# Altium integrated library Vishay Roederstein Electrolytic Axial-Lead Capacitor.IntLib: 155 symbols (part 2 of 3)
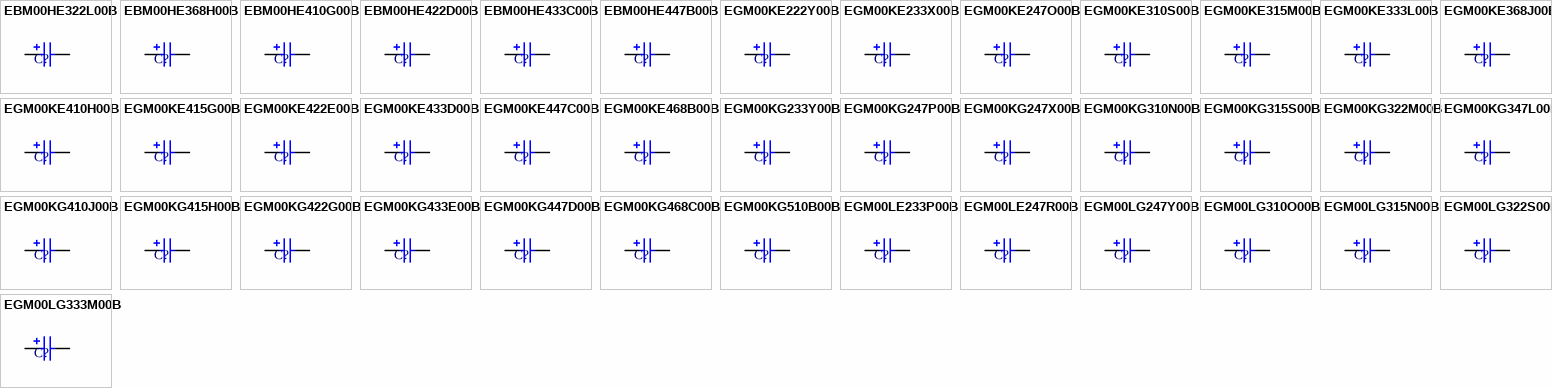
[diagram p4: symbols EBM00HE322L00B to EGM00LG333M00B]

## EGM00KG233Y00B
designator C?
Aluminum Electrolytic Capacitor, Axial Miniature: 33uF, 500V; Note: Bulk Pack Part No. shown, refer to Manufacturer's Data Sheets for other package types; PCB_Layout: Complies with IPC-2221.; DrillSize: Nominal, Rounded To The Nearest 0.1mm; Published: 19-Mar-2004; DatasheetDocument: 8-Apr-2002; PackageReference: CAPPA46.1-41x16.5; Publisher: Altium Limited; ComponentLink1Description: Manufacturer Link; ComponentLink1URL: http://www.vishay.com/; ComponentLink2Description: Datasheet; ComponentLink2URL: http://www.vishay.com/docs/25140/elebegm.pdf; Value: 33uF
footprint CAPPA46.1-41x16.5 (Capacitor, Electrolytic, Axial; Body 41 x 16.5 mm (LxDia. max), Lead Dia. 0.8 mm (typ))
simulation model CAP (Capacitor)
signal-integrity model EGM00KG233Y00B
pins: 1, 2
1 alternate drawing of the same symbol

## EGM00KG247P00B
designator C?
Aluminum Electrolytic Capacitor, Axial Miniature: 47uF, 450V; Note: Bulk Pack Part No. shown, refer to Manufacturer's Data Sheets for other package types; PCB_Layout: Complies with IPC-2221.; DrillSize: Nominal, Rounded To The Nearest 0.1mm; Published: 19-Mar-2004; DatasheetDocument: 8-Apr-2002; PackageReference: CAPPA46.1-41x16.5; Publisher: Altium Limited; ComponentLink1Description: Manufacturer Link; ComponentLink1URL: http://www.vishay.com/; ComponentLink2Description: Datasheet; ComponentLink2URL: http://www.vishay.com/docs/25140/elebegm.pdf; Value: 47uF
footprint CAPPA46.1-41x16.5 (Capacitor, Electrolytic, Axial; Body 41 x 16.5 mm (LxDia. max), Lead Dia. 0.8 mm (typ))
simulation model CAP (Capacitor)
signal-integrity model EGM00KG247P00B
pins: 1, 2
1 alternate drawing of the same symbol

## EGM00KG247X00B
designator C?
Aluminum Electrolytic Capacitor, Axial Miniature: 47uF, 400V; Note: Bulk Pack Part No. shown, refer to Manufacturer's Data Sheets for other package types; PCB_Layout: Complies with IPC-2221.; DrillSize: Nominal, Rounded To The Nearest 0.1mm; Published: 19-Mar-2004; DatasheetDocument: 8-Apr-2002; PackageReference: CAPPA46.1-41x16.5; Publisher: Altium Limited; ComponentLink1Description: Manufacturer Link; ComponentLink1URL: http://www.vishay.com/; ComponentLink2Description: Datasheet; ComponentLink2URL: http://www.vishay.com/docs/25140/elebegm.pdf; Value: 47uF
footprint CAPPA46.1-41x16.5 (Capacitor, Electrolytic, Axial; Body 41 x 16.5 mm (LxDia. max), Lead Dia. 0.8 mm (typ))
simulation model CAP (Capacitor)
signal-integrity model EGM00KG247X00B
pins: 1, 2
1 alternate drawing of the same symbol

## EGM00KG310N00B
designator C?
Aluminum Electrolytic Capacitor, Axial Miniature: 100uF, 250V; Note: Bulk Pack Part No. shown, refer to Manufacturer's Data Sheets for other package types; PCB_Layout: Complies with IPC-2221.; DrillSize: Nominal, Rounded To The Nearest 0.1mm; Published: 19-Mar-2004; DatasheetDocument: 8-Apr-2002; PackageReference: CAPPA46.1-41x16.5; Publisher: Altium Limited; ComponentLink1Description: Manufacturer Link; ComponentLink1URL: http://www.vishay.com/; ComponentLink2Description: Datasheet; ComponentLink2URL: http://www.vishay.com/docs/25140/elebegm.pdf; Value: 100uF
footprint CAPPA46.1-41x16.5 (Capacitor, Electrolytic, Axial; Body 41 x 16.5 mm (LxDia. max), Lead Dia. 0.8 mm (typ))
simulation model CAP (Capacitor)
signal-integrity model EGM00KG310N00B
pins: 1, 2
1 alternate drawing of the same symbol

## EGM00KG315S00B
designator C?
Aluminum Electrolytic Capacitor, Axial Miniature: 150uF, 200V; Note: Bulk Pack Part No. shown, refer to Manufacturer's Data Sheets for other package types; PCB_Layout: Complies with IPC-2221.; DrillSize: Nominal, Rounded To The Nearest 0.1mm; Published: 19-Mar-2004; DatasheetDocument: 8-Apr-2002; PackageReference: CAPPA46.1-41x16.5; Publisher: Altium Limited; ComponentLink1Description: Manufacturer Link; ComponentLink1URL: http://www.vishay.com/; ComponentLink2Description: Datasheet; ComponentLink2URL: http://www.vishay.com/docs/25140/elebegm.pdf; Value: 150uF
footprint CAPPA46.1-41x16.5 (Capacitor, Electrolytic, Axial; Body 41 x 16.5 mm (LxDia. max), Lead Dia. 0.8 mm (typ))
simulation model CAP (Capacitor)
signal-integrity model EGM00KG315S00B
pins: 1, 2
1 alternate drawing of the same symbol

## EGM00KG322M00B
designator C?
Aluminum Electrolytic Capacitor, Axial Miniature: 220uF, 160V; Note: Bulk Pack Part No. shown, refer to Manufacturer's Data Sheets for other package types; PCB_Layout: Complies with IPC-2221.; DrillSize: Nominal, Rounded To The Nearest 0.1mm; Published: 19-Mar-2004; DatasheetDocument: 8-Apr-2002; PackageReference: CAPPA46.1-41x16.5; Publisher: Altium Limited; ComponentLink1Description: Manufacturer Link; ComponentLink1URL: http://www.vishay.com/; ComponentLink2Description: Datasheet; ComponentLink2URL: http://www.vishay.com/docs/25140/elebegm.pdf; Value: 220uF
footprint CAPPA46.1-41x16.5 (Capacitor, Electrolytic, Axial; Body 41 x 16.5 mm (LxDia. max), Lead Dia. 0.8 mm (typ))
simulation model CAP (Capacitor)
signal-integrity model EGM00KG322M00B
pins: 1, 2
1 alternate drawing of the same symbol

## EGM00KG347L00B
designator C?
Aluminum Electrolytic Capacitor, Axial Miniature: 470uF, 100V; Note: Bulk Pack Part No. shown, refer to Manufacturer's Data Sheets for other package types; PCB_Layout: Complies with IPC-2221.; DrillSize: Nominal, Rounded To The Nearest 0.1mm; Published: 19-Mar-2004; DatasheetDocument: 8-Apr-2002; PackageReference: CAPPA46.1-41x16.5; Publisher: Altium Limited; ComponentLink1Description: Manufacturer Link; ComponentLink1URL: http://www.vishay.com/; ComponentLink2Description: Datasheet; ComponentLink2URL: http://www.vishay.com/docs/25140/elebegm.pdf; Value: 470uF
footprint CAPPA46.1-41x16.5 (Capacitor, Electrolytic, Axial; Body 41 x 16.5 mm (LxDia. max), Lead Dia. 0.8 mm (typ))
simulation model CAP (Capacitor)
signal-integrity model EGM00KG347L00B
pins: 1, 2
1 alternate drawing of the same symbol

## EGM00KG410J00B
designator C?
Aluminum Electrolytic Capacitor, Axial Miniature: 1000uF, 63V; Note: Bulk Pack Part No. shown, refer to Manufacturer's Data Sheets for other package types; PCB_Layout: Complies with IPC-2221.; DrillSize: Nominal, Rounded To The Nearest 0.1mm; Published: 19-Mar-2004; DatasheetDocument: 8-Apr-2002; PackageReference: CAPPA46.1-41x16.5; Publisher: Altium Limited; ComponentLink1Description: Manufacturer Link; ComponentLink1URL: http://www.vishay.com/; ComponentLink2Description: Datasheet; ComponentLink2URL: http://www.vishay.com/docs/25140/elebegm.pdf; Value: 1000uF
footprint CAPPA46.1-41x16.5 (Capacitor, Electrolytic, Axial; Body 41 x 16.5 mm (LxDia. max), Lead Dia. 0.8 mm (typ))
simulation model CAP (Capacitor)
signal-integrity model EGM00KG410J00B
pins: 1, 2
1 alternate drawing of the same symbol

## EGM00KG415H00B
designator C?
Aluminum Electrolytic Capacitor, Axial Miniature: 1500uF, 50V; Note: Bulk Pack Part No. shown, refer to Manufacturer's Data Sheets for other package types; PCB_Layout: Complies with IPC-2221.; DrillSize: Nominal, Rounded To The Nearest 0.1mm; Published: 19-Mar-2004; DatasheetDocument: 8-Apr-2002; PackageReference: CAPPA46.1-41x16.5; Publisher: Altium Limited; ComponentLink1Description: Manufacturer Link; ComponentLink1URL: http://www.vishay.com/; ComponentLink2Description: Datasheet; ComponentLink2URL: http://www.vishay.com/docs/25140/elebegm.pdf; Value: 1500uF
footprint CAPPA46.1-41x16.5 (Capacitor, Electrolytic, Axial; Body 41 x 16.5 mm (LxDia. max), Lead Dia. 0.8 mm (typ))
simulation model CAP (Capacitor)
signal-integrity model EGM00KG415H00B
pins: 1, 2
1 alternate drawing of the same symbol

## EGM00KG422G00B
designator C?
Aluminum Electrolytic Capacitor, Axial Miniature: 2200uF, 40V; Note: Bulk Pack Part No. shown, refer to Manufacturer's Data Sheets for other package types; PCB_Layout: Complies with IPC-2221.; DrillSize: Nominal, Rounded To The Nearest 0.1mm; Published: 19-Mar-2004; DatasheetDocument: 8-Apr-2002; PackageReference: CAPPA46.1-41x16.5; Publisher: Altium Limited; ComponentLink1Description: Manufacturer Link; ComponentLink1URL: http://www.vishay.com/; ComponentLink2Description: Datasheet; ComponentLink2URL: http://www.vishay.com/docs/25140/elebegm.pdf; Value: 2200uF
footprint CAPPA46.1-41x16.5 (Capacitor, Electrolytic, Axial; Body 41 x 16.5 mm (LxDia. max), Lead Dia. 0.8 mm (typ))
simulation model CAP (Capacitor)
signal-integrity model EGM00KG422G00B
pins: 1, 2
1 alternate drawing of the same symbol

## EGM00KG433E00B
designator C?
Aluminum Electrolytic Capacitor, Axial Miniature: 3300uF, 25V; Note: Bulk Pack Part No. shown, refer to Manufacturer's Data Sheets for other package types; PCB_Layout: Complies with IPC-2221.; DrillSize: Nominal, Rounded To The Nearest 0.1mm; Published: 19-Mar-2004; DatasheetDocument: 8-Apr-2002; PackageReference: CAPPA46.1-41x16.5; Publisher: Altium Limited; ComponentLink1Description: Manufacturer Link; ComponentLink1URL: http://www.vishay.com/; ComponentLink2Description: Datasheet; ComponentLink2URL: http://www.vishay.com/docs/25140/elebegm.pdf; Value: 3300uF
footprint CAPPA46.1-41x16.5 (Capacitor, Electrolytic, Axial; Body 41 x 16.5 mm (LxDia. max), Lead Dia. 0.8 mm (typ))
simulation model CAP (Capacitor)
signal-integrity model EGM00KG433E00B
pins: 1, 2
1 alternate drawing of the same symbol

## EGM00KG447D00B
designator C?
Aluminum Electrolytic Capacitor, Axial Miniature: 4700uF, 16V; Note: Bulk Pack Part No. shown, refer to Manufacturer's Data Sheets for other package types; PCB_Layout: Complies with IPC-2221.; DrillSize: Nominal, Rounded To The Nearest 0.1mm; Published: 19-Mar-2004; DatasheetDocument: 8-Apr-2002; PackageReference: CAPPA46.1-41x16.5; Publisher: Altium Limited; ComponentLink1Description: Manufacturer Link; ComponentLink1URL: http://www.vishay.com/; ComponentLink2Description: Datasheet; ComponentLink2URL: http://www.vishay.com/docs/25140/elebegm.pdf; Value: 4700uF
footprint CAPPA46.1-41x16.5 (Capacitor, Electrolytic, Axial; Body 41 x 16.5 mm (LxDia. max), Lead Dia. 0.8 mm (typ))
simulation model CAP (Capacitor)
signal-integrity model EGM00KG447D00B
pins: 1, 2
1 alternate drawing of the same symbol

## EGM00KG468C00B
designator C?
Aluminum Electrolytic Capacitor, Axial Miniature: 6800uF, 10V; Note: Bulk Pack Part No. shown, refer to Manufacturer's Data Sheets for other package types; PCB_Layout: Complies with IPC-2221.; DrillSize: Nominal, Rounded To The Nearest 0.1mm; Published: 19-Mar-2004; DatasheetDocument: 8-Apr-2002; PackageReference: CAPPA46.1-41x16.5; Publisher: Altium Limited; ComponentLink1Description: Manufacturer Link; ComponentLink1URL: http://www.vishay.com/; ComponentLink2Description: Datasheet; ComponentLink2URL: http://www.vishay.com/docs/25140/elebegm.pdf; Value: 6800uF
footprint CAPPA46.1-41x16.5 (Capacitor, Electrolytic, Axial; Body 41 x 16.5 mm (LxDia. max), Lead Dia. 0.8 mm (typ))
simulation model CAP (Capacitor)
signal-integrity model EGM00KG468C00B
pins: 1, 2
1 alternate drawing of the same symbol

## EGM00KG510B00B
designator C?
Aluminum Electrolytic Capacitor, Axial Miniature: 10000uF, 6.3V; Note: Bulk Pack Part No. shown, refer to Manufacturer's Data Sheets for other package types; PCB_Layout: Complies with IPC-2221.; DrillSize: Nominal, Rounded To The Nearest 0.1mm; Published: 19-Mar-2004; DatasheetDocument: 8-Apr-2002; PackageReference: CAPPA46.1-41x16.5; Publisher: Altium Limited; ComponentLink1Description: Manufacturer Link; ComponentLink1URL: http://www.vishay.com/; ComponentLink2Description: Datasheet; ComponentLink2URL: http://www.vishay.com/docs/25140/elebegm.pdf; Value: 10000uF
footprint CAPPA46.1-41x16.5 (Capacitor, Electrolytic, Axial; Body 41 x 16.5 mm (LxDia. max), Lead Dia. 0.8 mm (typ))
simulation model CAP (Capacitor)
signal-integrity model EGM00KG510B00B
pins: 1, 2
1 alternate drawing of the same symbol

## EGM00LE233P00B
designator C?
Aluminum Electrolytic Capacitor, Axial Miniature: 33uF, 450V; Note: Bulk Pack Part No. shown, refer to Manufacturer's Data Sheets for other package types; PCB_Layout: Complies with IPC-2221.; DrillSize: Nominal, Rounded To The Nearest 0.1mm; Published: 19-Mar-2004; DatasheetDocument: 8-Apr-2002; PackageReference: CAPPA35.6-30.5x18.5; Publisher: Altium Limited; ComponentLink1Description: Manufacturer Link; ComponentLink1URL: http://www.vishay.com/; ComponentLink2Description: Datasheet; ComponentLink2URL: http://www.vishay.com/docs/25140/elebegm.pdf; Value: 33uF
footprint CAPPA35.6-30.5x18.5 (Capacitor, Electrolytic, Axial; Body 30.5 x 18.5 mm (LxDia. max), Lead Dia. 0.8 mm (typ))
simulation model CAP (Capacitor)
signal-integrity model EGM00LE233P00B
pins: 1, 2
1 alternate drawing of the same symbol

## EGM00LE247R00B
designator C?
Aluminum Electrolytic Capacitor, Axial Miniature: 47uF, 385V; Note: Bulk Pack Part No. shown, refer to Manufacturer's Data Sheets for other package types; PCB_Layout: Complies with IPC-2221.; DrillSize: Nominal, Rounded To The Nearest 0.1mm; Published: 19-Mar-2004; DatasheetDocument: 8-Apr-2002; PackageReference: CAPPA35.6-30.5x18.5; Publisher: Altium Limited; ComponentLink1Description: Manufacturer Link; ComponentLink1URL: http://www.vishay.com/; ComponentLink2Description: Datasheet; ComponentLink2URL: http://www.vishay.com/docs/25140/elebegm.pdf; Value: 47uF
footprint CAPPA35.6-30.5x18.5 (Capacitor, Electrolytic, Axial; Body 30.5 x 18.5 mm (LxDia. max), Lead Dia. 0.8 mm (typ))
simulation model CAP (Capacitor)
signal-integrity model EGM00LE247R00B
pins: 1, 2
1 alternate drawing of the same symbol

## EGM00LG247Y00B
designator C?
Aluminum Electrolytic Capacitor, Axial Miniature: 47uF, 500V; Note: Bulk Pack Part No. shown, refer to Manufacturer's Data Sheets for other package types; PCB_Layout: Complies with IPC-2221.; DrillSize: Nominal, Rounded To The Nearest 0.1mm; Published: 19-Mar-2004; DatasheetDocument: 8-Apr-2002; PackageReference: CAPPA45.6-40.5x18.5; Publisher: Altium Limited; ComponentLink1Description: Manufacturer Link; ComponentLink1URL: http://www.vishay.com/; ComponentLink2Description: Datasheet; ComponentLink2URL: http://www.vishay.com/docs/25140/elebegm.pdf; Value: 47uF
footprint CAPPA45.6-40.5x18.5 (Capacitor, Electrolytic, Axial; Body 40.5 x 18.5 mm (LxDia. max), Lead Dia. 0.8 mm (typ))
simulation model CAP (Capacitor)
signal-integrity model EGM00LG247Y00B
pins: 1, 2
1 alternate drawing of the same symbol

## EGM00LG310O00B
designator C?
Aluminum Electrolytic Capacitor, Axial Miniature: 100uF, 350V; Note: Bulk Pack Part No. shown, refer to Manufacturer's Data Sheets for other package types; PCB_Layout: Complies with IPC-2221.; DrillSize: Nominal, Rounded To The Nearest 0.1mm; Published: 19-Mar-2004; DatasheetDocument: 8-Apr-2002; PackageReference: CAPPA45.6-40.5x18.5; Publisher: Altium Limited; ComponentLink1Description: Manufacturer Link; ComponentLink1URL: http://www.vishay.com/; ComponentLink2Description: Datasheet; ComponentLink2URL: http://www.vishay.com/docs/25140/elebegm.pdf; Value: 100uF
footprint CAPPA45.6-40.5x18.5 (Capacitor, Electrolytic, Axial; Body 40.5 x 18.5 mm (LxDia. max), Lead Dia. 0.8 mm (typ))
simulation model CAP (Capacitor)
signal-integrity model EGM00LG310O00B
pins: 1, 2
1 alternate drawing of the same symbol

## EGM00LG315N00B
designator C?
Aluminum Electrolytic Capacitor, Axial Miniature: 150uF, 250V; Note: Bulk Pack Part No. shown, refer to Manufacturer's Data Sheets for other package types; PCB_Layout: Complies with IPC-2221.; DrillSize: Nominal, Rounded To The Nearest 0.1mm; Published: 19-Mar-2004; DatasheetDocument: 8-Apr-2002; PackageReference: CAPPA45.6-40.5x18.5; Publisher: Altium Limited; ComponentLink1Description: Manufacturer Link; ComponentLink1URL: http://www.vishay.com/; ComponentLink2Description: Datasheet; ComponentLink2URL: http://www.vishay.com/docs/25140/elebegm.pdf; Value: 150uF
footprint CAPPA45.6-40.5x18.5 (Capacitor, Electrolytic, Axial; Body 40.5 x 18.5 mm (LxDia. max), Lead Dia. 0.8 mm (typ))
simulation model CAP (Capacitor)
signal-integrity model EGM00LG315N00B
pins: 1, 2
1 alternate drawing of the same symbol

## EGM00LG322S00B
designator C?
Aluminum Electrolytic Capacitor, Axial Miniature: 220uF, 200V; Note: Bulk Pack Part No. shown, refer to Manufacturer's Data Sheets for other package types; PCB_Layout: Complies with IPC-2221.; DrillSize: Nominal, Rounded To The Nearest 0.1mm; Published: 19-Mar-2004; DatasheetDocument: 8-Apr-2002; PackageReference: CAPPA45.6-40.5x18.5; Publisher: Altium Limited; ComponentLink1Description: Manufacturer Link; ComponentLink1URL: http://www.vishay.com/; ComponentLink2Description: Datasheet; ComponentLink2URL: http://www.vishay.com/docs/25140/elebegm.pdf; Value: 220uF
footprint CAPPA45.6-40.5x18.5 (Capacitor, Electrolytic, Axial; Body 40.5 x 18.5 mm (LxDia. max), Lead Dia. 0.8 mm (typ))
simulation model CAP (Capacitor)
signal-integrity model EGM00LG322S00B
pins: 1, 2
1 alternate drawing of the same symbol

## EGM00LG333M00B
designator C?
Aluminum Electrolytic Capacitor, Axial Miniature: 330uF, 160V; Note: Bulk Pack Part No. shown, refer to Manufacturer's Data Sheets for other package types; PCB_Layout: Complies with IPC-2221.; DrillSize: Nominal, Rounded To The Nearest 0.1mm; Published: 19-Mar-2004; DatasheetDocument: 8-Apr-2002; PackageReference: CAPPA45.6-40.5x18.5; Publisher: Altium Limited; ComponentLink1Description: Manufacturer Link; ComponentLink1URL: http://www.vishay.com/; ComponentLink2Description: Datasheet; ComponentLink2URL: http://www.vishay.com/docs/25140/elebegm.pdf; Value: 330uF
footprint CAPPA45.6-40.5x18.5 (Capacitor, Electrolytic, Axial; Body 40.5 x 18.5 mm (LxDia. max), Lead Dia. 0.8 mm (typ))
simulation model CAP (Capacitor)
signal-integrity model EGM00LG333M00B
pins: 1, 2
1 alternate drawing of the same symbol

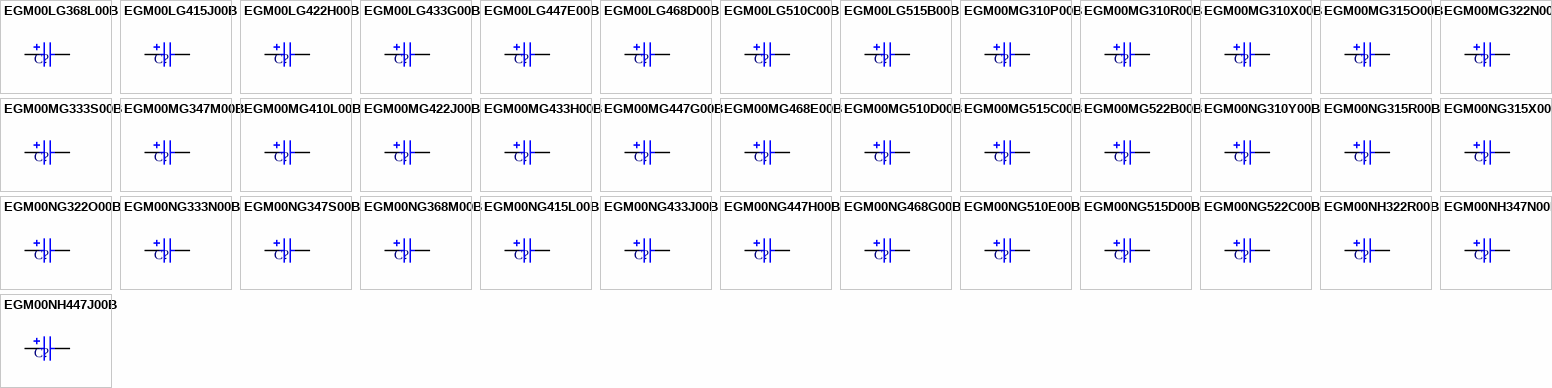
[diagram p2: symbols EGM00LG368L00B to EGM00NH447J00B]

## EGM00LG368L00B
designator C?
Aluminum Electrolytic Capacitor, Axial Miniature: 680uF, 100V; Note: Bulk Pack Part No. shown, refer to Manufacturer's Data Sheets for other package types; PCB_Layout: Complies with IPC-2221.; DrillSize: Nominal, Rounded To The Nearest 0.1mm; Published: 19-Mar-2004; DatasheetDocument: 8-Apr-2002; PackageReference: CAPPA45.6-40.5x18.5; Publisher: Altium Limited; ComponentLink1Description: Manufacturer Link; ComponentLink1URL: http://www.vishay.com/; ComponentLink2Description: Datasheet; ComponentLink2URL: http://www.vishay.com/docs/25140/elebegm.pdf; Value: 680uF
footprint CAPPA45.6-40.5x18.5 (Capacitor, Electrolytic, Axial; Body 40.5 x 18.5 mm (LxDia. max), Lead Dia. 0.8 mm (typ))
simulation model CAP (Capacitor)
signal-integrity model EGM00LG368L00B
pins: 1, 2
1 alternate drawing of the same symbol

## EGM00LG415J00B
designator C?
Aluminum Electrolytic Capacitor, Axial Miniature: 1500uF, 63V; Note: Bulk Pack Part No. shown, refer to Manufacturer's Data Sheets for other package types; PCB_Layout: Complies with IPC-2221.; DrillSize: Nominal, Rounded To The Nearest 0.1mm; Published: 19-Mar-2004; DatasheetDocument: 8-Apr-2002; PackageReference: CAPPA45.6-40.5x18.5; Publisher: Altium Limited; ComponentLink1Description: Manufacturer Link; ComponentLink1URL: http://www.vishay.com/; ComponentLink2Description: Datasheet; ComponentLink2URL: http://www.vishay.com/docs/25140/elebegm.pdf; Value: 1500uF
footprint CAPPA45.6-40.5x18.5 (Capacitor, Electrolytic, Axial; Body 40.5 x 18.5 mm (LxDia. max), Lead Dia. 0.8 mm (typ))
simulation model CAP (Capacitor)
signal-integrity model EGM00LG415J00B
pins: 1, 2
1 alternate drawing of the same symbol

## EGM00LG422H00B
designator C?
Aluminum Electrolytic Capacitor, Axial Miniature: 2200uF, 50V; Note: Bulk Pack Part No. shown, refer to Manufacturer's Data Sheets for other package types; PCB_Layout: Complies with IPC-2221.; DrillSize: Nominal, Rounded To The Nearest 0.1mm; Published: 19-Mar-2004; DatasheetDocument: 8-Apr-2002; PackageReference: CAPPA45.6-40.5x18.5; Publisher: Altium Limited; ComponentLink1Description: Manufacturer Link; ComponentLink1URL: http://www.vishay.com/; ComponentLink2Description: Datasheet; ComponentLink2URL: http://www.vishay.com/docs/25140/elebegm.pdf; Value: 2200uF
footprint CAPPA45.6-40.5x18.5 (Capacitor, Electrolytic, Axial; Body 40.5 x 18.5 mm (LxDia. max), Lead Dia. 0.8 mm (typ))
simulation model CAP (Capacitor)
signal-integrity model EGM00LG422H00B
pins: 1, 2
1 alternate drawing of the same symbol

## EGM00LG433G00B
designator C?
Aluminum Electrolytic Capacitor, Axial Miniature: 3300uF, 40V; Note: Bulk Pack Part No. shown, refer to Manufacturer's Data Sheets for other package types; PCB_Layout: Complies with IPC-2221.; DrillSize: Nominal, Rounded To The Nearest 0.1mm; Published: 19-Mar-2004; DatasheetDocument: 8-Apr-2002; PackageReference: CAPPA45.6-40.5x18.5; Publisher: Altium Limited; ComponentLink1Description: Manufacturer Link; ComponentLink1URL: http://www.vishay.com/; ComponentLink2Description: Datasheet; ComponentLink2URL: http://www.vishay.com/docs/25140/elebegm.pdf; Value: 3300uF
footprint CAPPA45.6-40.5x18.5 (Capacitor, Electrolytic, Axial; Body 40.5 x 18.5 mm (LxDia. max), Lead Dia. 0.8 mm (typ))
simulation model CAP (Capacitor)
signal-integrity model EGM00LG433G00B
pins: 1, 2
1 alternate drawing of the same symbol

## EGM00LG447E00B
designator C?
Aluminum Electrolytic Capacitor, Axial Miniature: 4700uF, 25V; Note: Bulk Pack Part No. shown, refer to Manufacturer's Data Sheets for other package types; PCB_Layout: Complies with IPC-2221.; DrillSize: Nominal, Rounded To The Nearest 0.1mm; Published: 19-Mar-2004; DatasheetDocument: 8-Apr-2002; PackageReference: CAPPA45.6-40.5x18.5; Publisher: Altium Limited; ComponentLink1Description: Manufacturer Link; ComponentLink1URL: http://www.vishay.com/; ComponentLink2Description: Datasheet; ComponentLink2URL: http://www.vishay.com/docs/25140/elebegm.pdf; Value: 4700uF
footprint CAPPA45.6-40.5x18.5 (Capacitor, Electrolytic, Axial; Body 40.5 x 18.5 mm (LxDia. max), Lead Dia. 0.8 mm (typ))
simulation model CAP (Capacitor)
signal-integrity model EGM00LG447E00B
pins: 1, 2
1 alternate drawing of the same symbol

## EGM00LG468D00B
designator C?
Aluminum Electrolytic Capacitor, Axial Miniature: 6800uF, 16V; Note: Bulk Pack Part No. shown, refer to Manufacturer's Data Sheets for other package types; PCB_Layout: Complies with IPC-2221.; DrillSize: Nominal, Rounded To The Nearest 0.1mm; Published: 19-Mar-2004; DatasheetDocument: 8-Apr-2002; PackageReference: CAPPA45.6-40.5x18.5; Publisher: Altium Limited; ComponentLink1Description: Manufacturer Link; ComponentLink1URL: http://www.vishay.com/; ComponentLink2Description: Datasheet; ComponentLink2URL: http://www.vishay.com/docs/25140/elebegm.pdf; Value: 6800uF
footprint CAPPA45.6-40.5x18.5 (Capacitor, Electrolytic, Axial; Body 40.5 x 18.5 mm (LxDia. max), Lead Dia. 0.8 mm (typ))
simulation model CAP (Capacitor)
signal-integrity model EGM00LG468D00B
pins: 1, 2
1 alternate drawing of the same symbol

## EGM00LG510C00B
designator C?
Aluminum Electrolytic Capacitor, Axial Miniature: 10000uF, 10V; Note: Bulk Pack Part No. shown, refer to Manufacturer's Data Sheets for other package types; PCB_Layout: Complies with IPC-2221.; DrillSize: Nominal, Rounded To The Nearest 0.1mm; Published: 19-Mar-2004; DatasheetDocument: 8-Apr-2002; PackageReference: CAPPA45.6-40.5x18.5; Publisher: Altium Limited; ComponentLink1Description: Manufacturer Link; ComponentLink1URL: http://www.vishay.com/; ComponentLink2Description: Datasheet; ComponentLink2URL: http://www.vishay.com/docs/25140/elebegm.pdf; Value: 10000uF
footprint CAPPA45.6-40.5x18.5 (Capacitor, Electrolytic, Axial; Body 40.5 x 18.5 mm (LxDia. max), Lead Dia. 0.8 mm (typ))
simulation model CAP (Capacitor)
signal-integrity model EGM00LG510C00B
pins: 1, 2
1 alternate drawing of the same symbol

## EGM00LG515B00B
designator C?
Aluminum Electrolytic Capacitor, Axial Miniature: 15000uF, 6.3V; Note: Bulk Pack Part No. shown, refer to Manufacturer's Data Sheets for other package types; PCB_Layout: Complies with IPC-2221.; DrillSize: Nominal, Rounded To The Nearest 0.1mm; Published: 19-Mar-2004; DatasheetDocument: 8-Apr-2002; PackageReference: CAPPA45.6-40.5x18.5; Publisher: Altium Limited; ComponentLink1Description: Manufacturer Link; ComponentLink1URL: http://www.vishay.com/; ComponentLink2Description: Datasheet; ComponentLink2URL: http://www.vishay.com/docs/25140/elebegm.pdf; Value: 15000uF
footprint CAPPA45.6-40.5x18.5 (Capacitor, Electrolytic, Axial; Body 40.5 x 18.5 mm (LxDia. max), Lead Dia. 0.8 mm (typ))
simulation model CAP (Capacitor)
signal-integrity model EGM00LG515B00B
pins: 1, 2
1 alternate drawing of the same symbol

## EGM00MG310P00B
designator C?
Aluminum Electrolytic Capacitor, Axial Miniature: 100uF, 450V; Note: Bulk Pack Part No. shown, refer to Manufacturer's Data Sheets for other package types; PCB_Layout: Complies with IPC-2221.; DrillSize: Nominal, Rounded To The Nearest 0.1mm; Published: 19-Mar-2004; DatasheetDocument: 8-Apr-2002; PackageReference: CAPPA46.1-41x21.5; Publisher: Altium Limited; ComponentLink1Description: Manufacturer Link; ComponentLink1URL: http://www.vishay.com/; ComponentLink2Description: Datasheet; ComponentLink2URL: http://www.vishay.com/docs/25140/elebegm.pdf; Value: 100uF
footprint CAPPA46.1-41x21.5 (Capacitor, Electrolytic, Axial; Body 41 x 21.5 mm (LxDia. max), Lead Dia. 0.8 mm (typ))
simulation model CAP (Capacitor)
signal-integrity model EGM00MG310P00B
pins: 1, 2
1 alternate drawing of the same symbol

## EGM00MG310R00B
designator C?
Aluminum Electrolytic Capacitor, Axial Miniature: 100uF, 385V; Note: Bulk Pack Part No. shown, refer to Manufacturer's Data Sheets for other package types; PCB_Layout: Complies with IPC-2221.; DrillSize: Nominal, Rounded To The Nearest 0.1mm; Published: 19-Mar-2004; DatasheetDocument: 8-Apr-2002; PackageReference: CAPPA46.1-41x21.5; Publisher: Altium Limited; ComponentLink1Description: Manufacturer Link; ComponentLink1URL: http://www.vishay.com/; ComponentLink2Description: Datasheet; ComponentLink2URL: http://www.vishay.com/docs/25140/elebegm.pdf; Value: 100uF
footprint CAPPA46.1-41x21.5 (Capacitor, Electrolytic, Axial; Body 41 x 21.5 mm (LxDia. max), Lead Dia. 0.8 mm (typ))
simulation model CAP (Capacitor)
signal-integrity model EGM00MG310R00B
pins: 1, 2
1 alternate drawing of the same symbol

## EGM00MG310X00B
designator C?
Aluminum Electrolytic Capacitor, Axial Miniature: 100uF, 400V; Note: Bulk Pack Part No. shown, refer to Manufacturer's Data Sheets for other package types; PCB_Layout: Complies with IPC-2221.; DrillSize: Nominal, Rounded To The Nearest 0.1mm; Published: 19-Mar-2004; DatasheetDocument: 8-Apr-2002; PackageReference: CAPPA46.1-41x21.5; Publisher: Altium Limited; ComponentLink1Description: Manufacturer Link; ComponentLink1URL: http://www.vishay.com/; ComponentLink2Description: Datasheet; ComponentLink2URL: http://www.vishay.com/docs/25140/elebegm.pdf; Value: 100uF
footprint CAPPA46.1-41x21.5 (Capacitor, Electrolytic, Axial; Body 41 x 21.5 mm (LxDia. max), Lead Dia. 0.8 mm (typ))
simulation model CAP (Capacitor)
signal-integrity model EGM00MG310X00B
pins: 1, 2
1 alternate drawing of the same symbol

## EGM00MG315O00B
designator C?
Aluminum Electrolytic Capacitor, Axial Miniature: 150uF, 350V; Note: Bulk Pack Part No. shown, refer to Manufacturer's Data Sheets for other package types; PCB_Layout: Complies with IPC-2221.; DrillSize: Nominal, Rounded To The Nearest 0.1mm; Published: 19-Mar-2004; DatasheetDocument: 8-Apr-2002; PackageReference: CAPPA46.1-41x21.5; Publisher: Altium Limited; ComponentLink1Description: Manufacturer Link; ComponentLink1URL: http://www.vishay.com/; ComponentLink2Description: Datasheet; ComponentLink2URL: http://www.vishay.com/docs/25140/elebegm.pdf; Value: 150uF
footprint CAPPA46.1-41x21.5 (Capacitor, Electrolytic, Axial; Body 41 x 21.5 mm (LxDia. max), Lead Dia. 0.8 mm (typ))
simulation model CAP (Capacitor)
signal-integrity model EGM00MG315O00B
pins: 1, 2
1 alternate drawing of the same symbol

## EGM00MG322N00B
designator C?
Aluminum Electrolytic Capacitor, Axial Miniature: 220uF, 250V; Note: Bulk Pack Part No. shown, refer to Manufacturer's Data Sheets for other package types; PCB_Layout: Complies with IPC-2221.; DrillSize: Nominal, Rounded To The Nearest 0.1mm; Published: 19-Mar-2004; DatasheetDocument: 8-Apr-2002; PackageReference: CAPPA46.1-41x21.5; Publisher: Altium Limited; ComponentLink1Description: Manufacturer Link; ComponentLink1URL: http://www.vishay.com/; ComponentLink2Description: Datasheet; ComponentLink2URL: http://www.vishay.com/docs/25140/elebegm.pdf; Value: 220uF
footprint CAPPA46.1-41x21.5 (Capacitor, Electrolytic, Axial; Body 41 x 21.5 mm (LxDia. max), Lead Dia. 0.8 mm (typ))
simulation model CAP (Capacitor)
signal-integrity model EGM00MG322N00B
pins: 1, 2
1 alternate drawing of the same symbol

## EGM00MG333S00B
designator C?
Aluminum Electrolytic Capacitor, Axial Miniature: 330uF, 200V; Note: Bulk Pack Part No. shown, refer to Manufacturer's Data Sheets for other package types; PCB_Layout: Complies with IPC-2221.; DrillSize: Nominal, Rounded To The Nearest 0.1mm; Published: 19-Mar-2004; DatasheetDocument: 8-Apr-2002; PackageReference: CAPPA46.1-41x21.5; Publisher: Altium Limited; ComponentLink1Description: Manufacturer Link; ComponentLink1URL: http://www.vishay.com/; ComponentLink2Description: Datasheet; ComponentLink2URL: http://www.vishay.com/docs/25140/elebegm.pdf; Value: 330uF
footprint CAPPA46.1-41x21.5 (Capacitor, Electrolytic, Axial; Body 41 x 21.5 mm (LxDia. max), Lead Dia. 0.8 mm (typ))
simulation model CAP (Capacitor)
signal-integrity model EGM00MG333S00B
pins: 1, 2
1 alternate drawing of the same symbol

## EGM00MG347M00B
designator C?
Aluminum Electrolytic Capacitor, Axial Miniature: 470uF, 160V; Note: Bulk Pack Part No. shown, refer to Manufacturer's Data Sheets for other package types; PCB_Layout: Complies with IPC-2221.; DrillSize: Nominal, Rounded To The Nearest 0.1mm; Published: 19-Mar-2004; DatasheetDocument: 8-Apr-2002; PackageReference: CAPPA46.1-41x21.5; Publisher: Altium Limited; ComponentLink1Description: Manufacturer Link; ComponentLink1URL: http://www.vishay.com/; ComponentLink2Description: Datasheet; ComponentLink2URL: http://www.vishay.com/docs/25140/elebegm.pdf; Value: 470uF
footprint CAPPA46.1-41x21.5 (Capacitor, Electrolytic, Axial; Body 41 x 21.5 mm (LxDia. max), Lead Dia. 0.8 mm (typ))
simulation model CAP (Capacitor)
signal-integrity model EGM00MG347M00B
pins: 1, 2
1 alternate drawing of the same symbol

## EGM00MG410L00B
designator C?
Aluminum Electrolytic Capacitor, Axial Miniature: 1000uF, 100V; Note: Bulk Pack Part No. shown, refer to Manufacturer's Data Sheets for other package types; PCB_Layout: Complies with IPC-2221.; DrillSize: Nominal, Rounded To The Nearest 0.1mm; Published: 19-Mar-2004; DatasheetDocument: 8-Apr-2002; PackageReference: CAPPA46.1-41x21.5; Publisher: Altium Limited; ComponentLink1Description: Manufacturer Link; ComponentLink1URL: http://www.vishay.com/; ComponentLink2Description: Datasheet; ComponentLink2URL: http://www.vishay.com/docs/25140/elebegm.pdf; Value: 1000uF
footprint CAPPA46.1-41x21.5 (Capacitor, Electrolytic, Axial; Body 41 x 21.5 mm (LxDia. max), Lead Dia. 0.8 mm (typ))
simulation model CAP (Capacitor)
signal-integrity model EGM00MG410L00B
pins: 1, 2
1 alternate drawing of the same symbol

## EGM00MG422J00B
designator C?
Aluminum Electrolytic Capacitor, Axial Miniature: 2200uF, 63V; Note: Bulk Pack Part No. shown, refer to Manufacturer's Data Sheets for other package types; PCB_Layout: Complies with IPC-2221.; DrillSize: Nominal, Rounded To The Nearest 0.1mm; Published: 19-Mar-2004; DatasheetDocument: 8-Apr-2002; PackageReference: CAPPA46.1-41x21.5; Publisher: Altium Limited; ComponentLink1Description: Manufacturer Link; ComponentLink1URL: http://www.vishay.com/; ComponentLink2Description: Datasheet; ComponentLink2URL: http://www.vishay.com/docs/25140/elebegm.pdf; Value: 2200uF
footprint CAPPA46.1-41x21.5 (Capacitor, Electrolytic, Axial; Body 41 x 21.5 mm (LxDia. max), Lead Dia. 0.8 mm (typ))
simulation model CAP (Capacitor)
signal-integrity model EGM00MG422J00B
pins: 1, 2
1 alternate drawing of the same symbol

## EGM00MG433H00B
designator C?
Aluminum Electrolytic Capacitor, Axial Miniature: 3300uF, 50V; Note: Bulk Pack Part No. shown, refer to Manufacturer's Data Sheets for other package types; PCB_Layout: Complies with IPC-2221.; DrillSize: Nominal, Rounded To The Nearest 0.1mm; Published: 19-Mar-2004; DatasheetDocument: 8-Apr-2002; PackageReference: CAPPA46.1-41x21.5; Publisher: Altium Limited; ComponentLink1Description: Manufacturer Link; ComponentLink1URL: http://www.vishay.com/; ComponentLink2Description: Datasheet; ComponentLink2URL: http://www.vishay.com/docs/25140/elebegm.pdf; Value: 3300uF
footprint CAPPA46.1-41x21.5 (Capacitor, Electrolytic, Axial; Body 41 x 21.5 mm (LxDia. max), Lead Dia. 0.8 mm (typ))
simulation model CAP (Capacitor)
signal-integrity model EGM00MG433H00B
pins: 1, 2
1 alternate drawing of the same symbol

## EGM00MG447G00B
designator C?
Aluminum Electrolytic Capacitor, Axial Miniature: 4700uF, 40V; Note: Bulk Pack Part No. shown, refer to Manufacturer's Data Sheets for other package types; PCB_Layout: Complies with IPC-2221.; DrillSize: Nominal, Rounded To The Nearest 0.1mm; Published: 19-Mar-2004; DatasheetDocument: 8-Apr-2002; PackageReference: CAPPA46.1-41x21.5; Publisher: Altium Limited; ComponentLink1Description: Manufacturer Link; ComponentLink1URL: http://www.vishay.com/; ComponentLink2Description: Datasheet; ComponentLink2URL: http://www.vishay.com/docs/25140/elebegm.pdf; Value: 4700uF
footprint CAPPA46.1-41x21.5 (Capacitor, Electrolytic, Axial; Body 41 x 21.5 mm (LxDia. max), Lead Dia. 0.8 mm (typ))
simulation model CAP (Capacitor)
signal-integrity model EGM00MG447G00B
pins: 1, 2
1 alternate drawing of the same symbol

## EGM00MG468E00B
designator C?
Aluminum Electrolytic Capacitor, Axial Miniature: 6800uF, 25V; Note: Bulk Pack Part No. shown, refer to Manufacturer's Data Sheets for other package types; PCB_Layout: Complies with IPC-2221.; DrillSize: Nominal, Rounded To The Nearest 0.1mm; Published: 19-Mar-2004; DatasheetDocument: 8-Apr-2002; PackageReference: CAPPA46.1-41x21.5; Publisher: Altium Limited; ComponentLink1Description: Manufacturer Link; ComponentLink1URL: http://www.vishay.com/; ComponentLink2Description: Datasheet; ComponentLink2URL: http://www.vishay.com/docs/25140/elebegm.pdf; Value: 6800uF
footprint CAPPA46.1-41x21.5 (Capacitor, Electrolytic, Axial; Body 41 x 21.5 mm (LxDia. max), Lead Dia. 0.8 mm (typ))
simulation model CAP (Capacitor)
signal-integrity model EGM00MG468E00B
pins: 1, 2
1 alternate drawing of the same symbol

## EGM00MG510D00B
designator C?
Aluminum Electrolytic Capacitor, Axial Miniature: 10000uF, 16V; Note: Bulk Pack Part No. shown, refer to Manufacturer's Data Sheets for other package types; PCB_Layout: Complies with IPC-2221.; DrillSize: Nominal, Rounded To The Nearest 0.1mm; Published: 19-Mar-2004; DatasheetDocument: 8-Apr-2002; PackageReference: CAPPA46.1-41x21.5; Publisher: Altium Limited; ComponentLink1Description: Manufacturer Link; ComponentLink1URL: http://www.vishay.com/; ComponentLink2Description: Datasheet; ComponentLink2URL: http://www.vishay.com/docs/25140/elebegm.pdf; Value: 10000uF
footprint CAPPA46.1-41x21.5 (Capacitor, Electrolytic, Axial; Body 41 x 21.5 mm (LxDia. max), Lead Dia. 0.8 mm (typ))
simulation model CAP (Capacitor)
signal-integrity model EGM00MG510D00B
pins: 1, 2
1 alternate drawing of the same symbol

## EGM00MG515C00B
designator C?
Aluminum Electrolytic Capacitor, Axial Miniature: 15000uF, 10V; Note: Bulk Pack Part No. shown, refer to Manufacturer's Data Sheets for other package types; PCB_Layout: Complies with IPC-2221.; DrillSize: Nominal, Rounded To The Nearest 0.1mm; Published: 19-Mar-2004; DatasheetDocument: 8-Apr-2002; PackageReference: CAPPA46.1-41x21.5; Publisher: Altium Limited; ComponentLink1Description: Manufacturer Link; ComponentLink1URL: http://www.vishay.com/; ComponentLink2Description: Datasheet; ComponentLink2URL: http://www.vishay.com/docs/25140/elebegm.pdf; Value: 15000uF
footprint CAPPA46.1-41x21.5 (Capacitor, Electrolytic, Axial; Body 41 x 21.5 mm (LxDia. max), Lead Dia. 0.8 mm (typ))
simulation model CAP (Capacitor)
signal-integrity model EGM00MG515C00B
pins: 1, 2
1 alternate drawing of the same symbol

## EGM00MG522B00B
designator C?
Aluminum Electrolytic Capacitor, Axial Miniature: 22000uF, 6.3V; Note: Bulk Pack Part No. shown, refer to Manufacturer's Data Sheets for other package types; PCB_Layout: Complies with IPC-2221.; DrillSize: Nominal, Rounded To The Nearest 0.1mm; Published: 19-Mar-2004; DatasheetDocument: 8-Apr-2002; PackageReference: CAPPA46.1-41x21.5; Publisher: Altium Limited; ComponentLink1Description: Manufacturer Link; ComponentLink1URL: http://www.vishay.com/; ComponentLink2Description: Datasheet; ComponentLink2URL: http://www.vishay.com/docs/25140/elebegm.pdf; Value: 22000uF
footprint CAPPA46.1-41x21.5 (Capacitor, Electrolytic, Axial; Body 41 x 21.5 mm (LxDia. max), Lead Dia. 0.8 mm (typ))
simulation model CAP (Capacitor)
signal-integrity model EGM00MG522B00B
pins: 1, 2
1 alternate drawing of the same symbol

## EGM00NG310Y00B
designator C?
Aluminum Electrolytic Capacitor, Axial Miniature: 100uF, 500V; Note: Bulk Pack Part No. shown, refer to Manufacturer's Data Sheets for other package types; PCB_Layout: Complies with IPC-2221.; DrillSize: Nominal, Rounded To The Nearest 0.1mm; Published: 19-Mar-2004; DatasheetDocument: 8-Apr-2002; PackageReference: CAPPA46.1-41x25.5; Publisher: Altium Limited; ComponentLink1Description: Manufacturer Link; ComponentLink1URL: http://www.vishay.com/; ComponentLink2Description: Datasheet; ComponentLink2URL: http://www.vishay.com/docs/25140/elebegm.pdf; Value: 100uF
footprint CAPPA46.1-41x25.5 (Capacitor, Electrolytic, Axial; Body 41 x 25.5 mm (LxDia. max), Lead Dia. 0.8 mm (typ))
simulation model CAP (Capacitor)
signal-integrity model EGM00NG310Y00B
pins: 1, 2
1 alternate drawing of the same symbol

## EGM00NG315R00B
designator C?
Aluminum Electrolytic Capacitor, Axial Miniature: 150uF, 385V; Note: Bulk Pack Part No. shown, refer to Manufacturer's Data Sheets for other package types; PCB_Layout: Complies with IPC-2221.; DrillSize: Nominal, Rounded To The Nearest 0.1mm; Published: 19-Mar-2004; DatasheetDocument: 8-Apr-2002; PackageReference: CAPPA46.1-41x25.5; Publisher: Altium Limited; ComponentLink1Description: Manufacturer Link; ComponentLink1URL: http://www.vishay.com/; ComponentLink2Description: Datasheet; ComponentLink2URL: http://www.vishay.com/docs/25140/elebegm.pdf; Value: 150uF
footprint CAPPA46.1-41x25.5 (Capacitor, Electrolytic, Axial; Body 41 x 25.5 mm (LxDia. max), Lead Dia. 0.8 mm (typ))
simulation model CAP (Capacitor)
signal-integrity model EGM00NG315R00B
pins: 1, 2
1 alternate drawing of the same symbol

## EGM00NG315X00B
designator C?
Aluminum Electrolytic Capacitor, Axial Miniature: 150uF, 400V; Note: Bulk Pack Part No. shown, refer to Manufacturer's Data Sheets for other package types; PCB_Layout: Complies with IPC-2221.; DrillSize: Nominal, Rounded To The Nearest 0.1mm; Published: 19-Mar-2004; DatasheetDocument: 8-Apr-2002; PackageReference: CAPPA46.1-41x25.5; Publisher: Altium Limited; ComponentLink1Description: Manufacturer Link; ComponentLink1URL: http://www.vishay.com/; ComponentLink2Description: Datasheet; ComponentLink2URL: http://www.vishay.com/docs/25140/elebegm.pdf; Value: 150uF
footprint CAPPA46.1-41x25.5 (Capacitor, Electrolytic, Axial; Body 41 x 25.5 mm (LxDia. max), Lead Dia. 0.8 mm (typ))
simulation model CAP (Capacitor)
signal-integrity model EGM00NG315X00B
pins: 1, 2
1 alternate drawing of the same symbol

## EGM00NG322O00B
designator C?
Aluminum Electrolytic Capacitor, Axial Miniature: 220uF, 350V; Note: Bulk Pack Part No. shown, refer to Manufacturer's Data Sheets for other package types; PCB_Layout: Complies with IPC-2221.; DrillSize: Nominal, Rounded To The Nearest 0.1mm; Published: 19-Mar-2004; DatasheetDocument: 8-Apr-2002; PackageReference: CAPPA46.1-41x25.5; Publisher: Altium Limited; ComponentLink1Description: Manufacturer Link; ComponentLink1URL: http://www.vishay.com/; ComponentLink2Description: Datasheet; ComponentLink2URL: http://www.vishay.com/docs/25140/elebegm.pdf; Value: 220uF
footprint CAPPA46.1-41x25.5 (Capacitor, Electrolytic, Axial; Body 41 x 25.5 mm (LxDia. max), Lead Dia. 0.8 mm (typ))
simulation model CAP (Capacitor)
signal-integrity model EGM00NG322O00B
pins: 1, 2
1 alternate drawing of the same symbol

## EGM00NG333N00B
designator C?
Aluminum Electrolytic Capacitor, Axial Miniature: 330uF, 250V; Note: Bulk Pack Part No. shown, refer to Manufacturer's Data Sheets for other package types; PCB_Layout: Complies with IPC-2221.; DrillSize: Nominal, Rounded To The Nearest 0.1mm; Published: 19-Mar-2004; DatasheetDocument: 8-Apr-2002; PackageReference: CAPPA46.1-41x25.5; Publisher: Altium Limited; ComponentLink1Description: Manufacturer Link; ComponentLink1URL: http://www.vishay.com/; ComponentLink2Description: Datasheet; ComponentLink2URL: http://www.vishay.com/docs/25140/elebegm.pdf; Value: 330uF
footprint CAPPA46.1-41x25.5 (Capacitor, Electrolytic, Axial; Body 41 x 25.5 mm (LxDia. max), Lead Dia. 0.8 mm (typ))
simulation model CAP (Capacitor)
signal-integrity model EGM00NG333N00B
pins: 1, 2
1 alternate drawing of the same symbol

## EGM00NG347S00B
designator C?
Aluminum Electrolytic Capacitor, Axial Miniature: 470uF, 200V; Note: Bulk Pack Part No. shown, refer to Manufacturer's Data Sheets for other package types; PCB_Layout: Complies with IPC-2221.; DrillSize: Nominal, Rounded To The Nearest 0.1mm; Published: 19-Mar-2004; DatasheetDocument: 8-Apr-2002; PackageReference: CAPPA46.1-41x25.5; Publisher: Altium Limited; ComponentLink1Description: Manufacturer Link; ComponentLink1URL: http://www.vishay.com/; ComponentLink2Description: Datasheet; ComponentLink2URL: http://www.vishay.com/docs/25140/elebegm.pdf; Value: 470uF
footprint CAPPA46.1-41x25.5 (Capacitor, Electrolytic, Axial; Body 41 x 25.5 mm (LxDia. max), Lead Dia. 0.8 mm (typ))
simulation model CAP (Capacitor)
signal-integrity model EGM00NG347S00B
pins: 1, 2
1 alternate drawing of the same symbol

## EGM00NG368M00B
designator C?
Aluminum Electrolytic Capacitor, Axial Miniature: 680uF, 160V; Note: Bulk Pack Part No. shown, refer to Manufacturer's Data Sheets for other package types; PCB_Layout: Complies with IPC-2221.; DrillSize: Nominal, Rounded To The Nearest 0.1mm; Published: 19-Mar-2004; DatasheetDocument: 8-Apr-2002; PackageReference: CAPPA46.1-41x25.5; Publisher: Altium Limited; ComponentLink1Description: Manufacturer Link; ComponentLink1URL: http://www.vishay.com/; ComponentLink2Description: Datasheet; ComponentLink2URL: http://www.vishay.com/docs/25140/elebegm.pdf; Value: 680uF
footprint CAPPA46.1-41x25.5 (Capacitor, Electrolytic, Axial; Body 41 x 25.5 mm (LxDia. max), Lead Dia. 0.8 mm (typ))
simulation model CAP (Capacitor)
signal-integrity model EGM00NG368M00B
pins: 1, 2
1 alternate drawing of the same symbol

## EGM00NG415L00B
designator C?
Aluminum Electrolytic Capacitor, Axial Miniature: 1500uF, 100V; Note: Bulk Pack Part No. shown, refer to Manufacturer's Data Sheets for other package types; PCB_Layout: Complies with IPC-2221.; DrillSize: Nominal, Rounded To The Nearest 0.1mm; Published: 19-Mar-2004; DatasheetDocument: 8-Apr-2002; PackageReference: CAPPA46.1-41x25.5; Publisher: Altium Limited; ComponentLink1Description: Manufacturer Link; ComponentLink1URL: http://www.vishay.com/; ComponentLink2Description: Datasheet; ComponentLink2URL: http://www.vishay.com/docs/25140/elebegm.pdf; Value: 1500uF
footprint CAPPA46.1-41x25.5 (Capacitor, Electrolytic, Axial; Body 41 x 25.5 mm (LxDia. max), Lead Dia. 0.8 mm (typ))
simulation model CAP (Capacitor)
signal-integrity model EGM00NG415L00B
pins: 1, 2
1 alternate drawing of the same symbol

## EGM00NG433J00B
designator C?
Aluminum Electrolytic Capacitor, Axial Miniature: 3300uF, 63V; Note: Bulk Pack Part No. shown, refer to Manufacturer's Data Sheets for other package types; PCB_Layout: Complies with IPC-2221.; DrillSize: Nominal, Rounded To The Nearest 0.1mm; Published: 19-Mar-2004; DatasheetDocument: 8-Apr-2002; PackageReference: CAPPA46.1-41x25.5; Publisher: Altium Limited; ComponentLink1Description: Manufacturer Link; ComponentLink1URL: http://www.vishay.com/; ComponentLink2Description: Datasheet; ComponentLink2URL: http://www.vishay.com/docs/25140/elebegm.pdf; Value: 3300uF
footprint CAPPA46.1-41x25.5 (Capacitor, Electrolytic, Axial; Body 41 x 25.5 mm (LxDia. max), Lead Dia. 0.8 mm (typ))
simulation model CAP (Capacitor)
signal-integrity model EGM00NG433J00B
pins: 1, 2
1 alternate drawing of the same symbol

## EGM00NG447H00B
designator C?
Aluminum Electrolytic Capacitor, Axial Miniature: 4700uF, 50V; Note: Bulk Pack Part No. shown, refer to Manufacturer's Data Sheets for other package types; PCB_Layout: Complies with IPC-2221.; DrillSize: Nominal, Rounded To The Nearest 0.1mm; Published: 19-Mar-2004; DatasheetDocument: 8-Apr-2002; PackageReference: CAPPA46.1-41x25.5; Publisher: Altium Limited; ComponentLink1Description: Manufacturer Link; ComponentLink1URL: http://www.vishay.com/; ComponentLink2Description: Datasheet; ComponentLink2URL: http://www.vishay.com/docs/25140/elebegm.pdf; Value: 4700uF
footprint CAPPA46.1-41x25.5 (Capacitor, Electrolytic, Axial; Body 41 x 25.5 mm (LxDia. max), Lead Dia. 0.8 mm (typ))
simulation model CAP (Capacitor)
signal-integrity model EGM00NG447H00B
pins: 1, 2
1 alternate drawing of the same symbol

## EGM00NG468G00B
designator C?
Aluminum Electrolytic Capacitor, Axial Miniature: 6800uF, 40V; Note: Bulk Pack Part No. shown, refer to Manufacturer's Data Sheets for other package types; PCB_Layout: Complies with IPC-2221.; DrillSize: Nominal, Rounded To The Nearest 0.1mm; Published: 19-Mar-2004; DatasheetDocument: 8-Apr-2002; PackageReference: CAPPA46.1-41x25.5; Publisher: Altium Limited; ComponentLink1Description: Manufacturer Link; ComponentLink1URL: http://www.vishay.com/; ComponentLink2Description: Datasheet; ComponentLink2URL: http://www.vishay.com/docs/25140/elebegm.pdf; Value: 6800uF
footprint CAPPA46.1-41x25.5 (Capacitor, Electrolytic, Axial; Body 41 x 25.5 mm (LxDia. max), Lead Dia. 0.8 mm (typ))
simulation model CAP (Capacitor)
signal-integrity model EGM00NG468G00B
pins: 1, 2
1 alternate drawing of the same symbol

## EGM00NG510E00B
designator C?
Aluminum Electrolytic Capacitor, Axial Miniature: 10000uF, 25V; Note: Bulk Pack Part No. shown, refer to Manufacturer's Data Sheets for other package types; PCB_Layout: Complies with IPC-2221.; DrillSize: Nominal, Rounded To The Nearest 0.1mm; Published: 19-Mar-2004; DatasheetDocument: 8-Apr-2002; PackageReference: CAPPA46.1-41x25.5; Publisher: Altium Limited; ComponentLink1Description: Manufacturer Link; ComponentLink1URL: http://www.vishay.com/; ComponentLink2Description: Datasheet; ComponentLink2URL: http://www.vishay.com/docs/25140/elebegm.pdf; Value: 10000uF
footprint CAPPA46.1-41x25.5 (Capacitor, Electrolytic, Axial; Body 41 x 25.5 mm (LxDia. max), Lead Dia. 0.8 mm (typ))
simulation model CAP (Capacitor)
signal-integrity model EGM00NG510E00B
pins: 1, 2
1 alternate drawing of the same symbol

## EGM00NG515D00B
designator C?
Aluminum Electrolytic Capacitor, Axial Miniature: 15000uF, 16V; Note: Bulk Pack Part No. shown, refer to Manufacturer's Data Sheets for other package types; PCB_Layout: Complies with IPC-2221.; DrillSize: Nominal, Rounded To The Nearest 0.1mm; Published: 19-Mar-2004; DatasheetDocument: 8-Apr-2002; PackageReference: CAPPA46.1-41x25.5; Publisher: Altium Limited; ComponentLink1Description: Manufacturer Link; ComponentLink1URL: http://www.vishay.com/; ComponentLink2Description: Datasheet; ComponentLink2URL: http://www.vishay.com/docs/25140/elebegm.pdf; Value: 15000uF
footprint CAPPA46.1-41x25.5 (Capacitor, Electrolytic, Axial; Body 41 x 25.5 mm (LxDia. max), Lead Dia. 0.8 mm (typ))
simulation model CAP (Capacitor)
signal-integrity model EGM00NG515D00B
pins: 1, 2
1 alternate drawing of the same symbol

## EGM00NG522C00B
designator C?
Aluminum Electrolytic Capacitor, Axial Miniature: 22000uF, 10V; Note: Bulk Pack Part No. shown, refer to Manufacturer's Data Sheets for other package types; PCB_Layout: Complies with IPC-2221.; DrillSize: Nominal, Rounded To The Nearest 0.1mm; Published: 19-Mar-2004; DatasheetDocument: 8-Apr-2002; PackageReference: CAPPA46.1-41x25.5; Publisher: Altium Limited; ComponentLink1Description: Manufacturer Link; ComponentLink1URL: http://www.vishay.com/; ComponentLink2Description: Datasheet; ComponentLink2URL: http://www.vishay.com/docs/25140/elebegm.pdf; Value: 22000uF
footprint CAPPA46.1-41x25.5 (Capacitor, Electrolytic, Axial; Body 41 x 25.5 mm (LxDia. max), Lead Dia. 0.8 mm (typ))
simulation model CAP (Capacitor)
signal-integrity model EGM00NG522C00B
pins: 1, 2
1 alternate drawing of the same symbol

## EGM00NH322R00B
designator C?
Aluminum Electrolytic Capacitor, Axial Miniature: 220uF, 385V; Note: Bulk Pack Part No. shown, refer to Manufacturer's Data Sheets for other package types; PCB_Layout: Complies with IPC-2221.; DrillSize: Nominal, Rounded To The Nearest 0.1mm; Published: 19-Mar-2004; DatasheetDocument: 8-Apr-2002; PackageReference: CAPPA52.1-47x25.5; Publisher: Altium Limited; ComponentLink1Description: Manufacturer Link; ComponentLink1URL: http://www.vishay.com/; ComponentLink2Description: Datasheet; ComponentLink2URL: http://www.vishay.com/docs/25140/elebegm.pdf; Value: 220uF
footprint CAPPA52.1-47x25.5 (Capacitor, Electrolytic, Axial; Body 47 x 25.5 mm (LxDia. max), Lead Dia. 0.8 mm (typ))
simulation model CAP (Capacitor)
signal-integrity model EGM00NH322R00B
pins: 1, 2
1 alternate drawing of the same symbol